# Altium footprint library Full_lib.PcbLib: 247 footprints (part 8 of 16)
Each footprint in its own frame and in the unit in brackets; x right, y up, seen from the top. Pads: shape width x height; smd on the part's side, far side on the other; paste and mask are expansions set on the pad; w line width, h text height; cw(c..) or ccw(c..) is an arc to the next point about the centre after c.
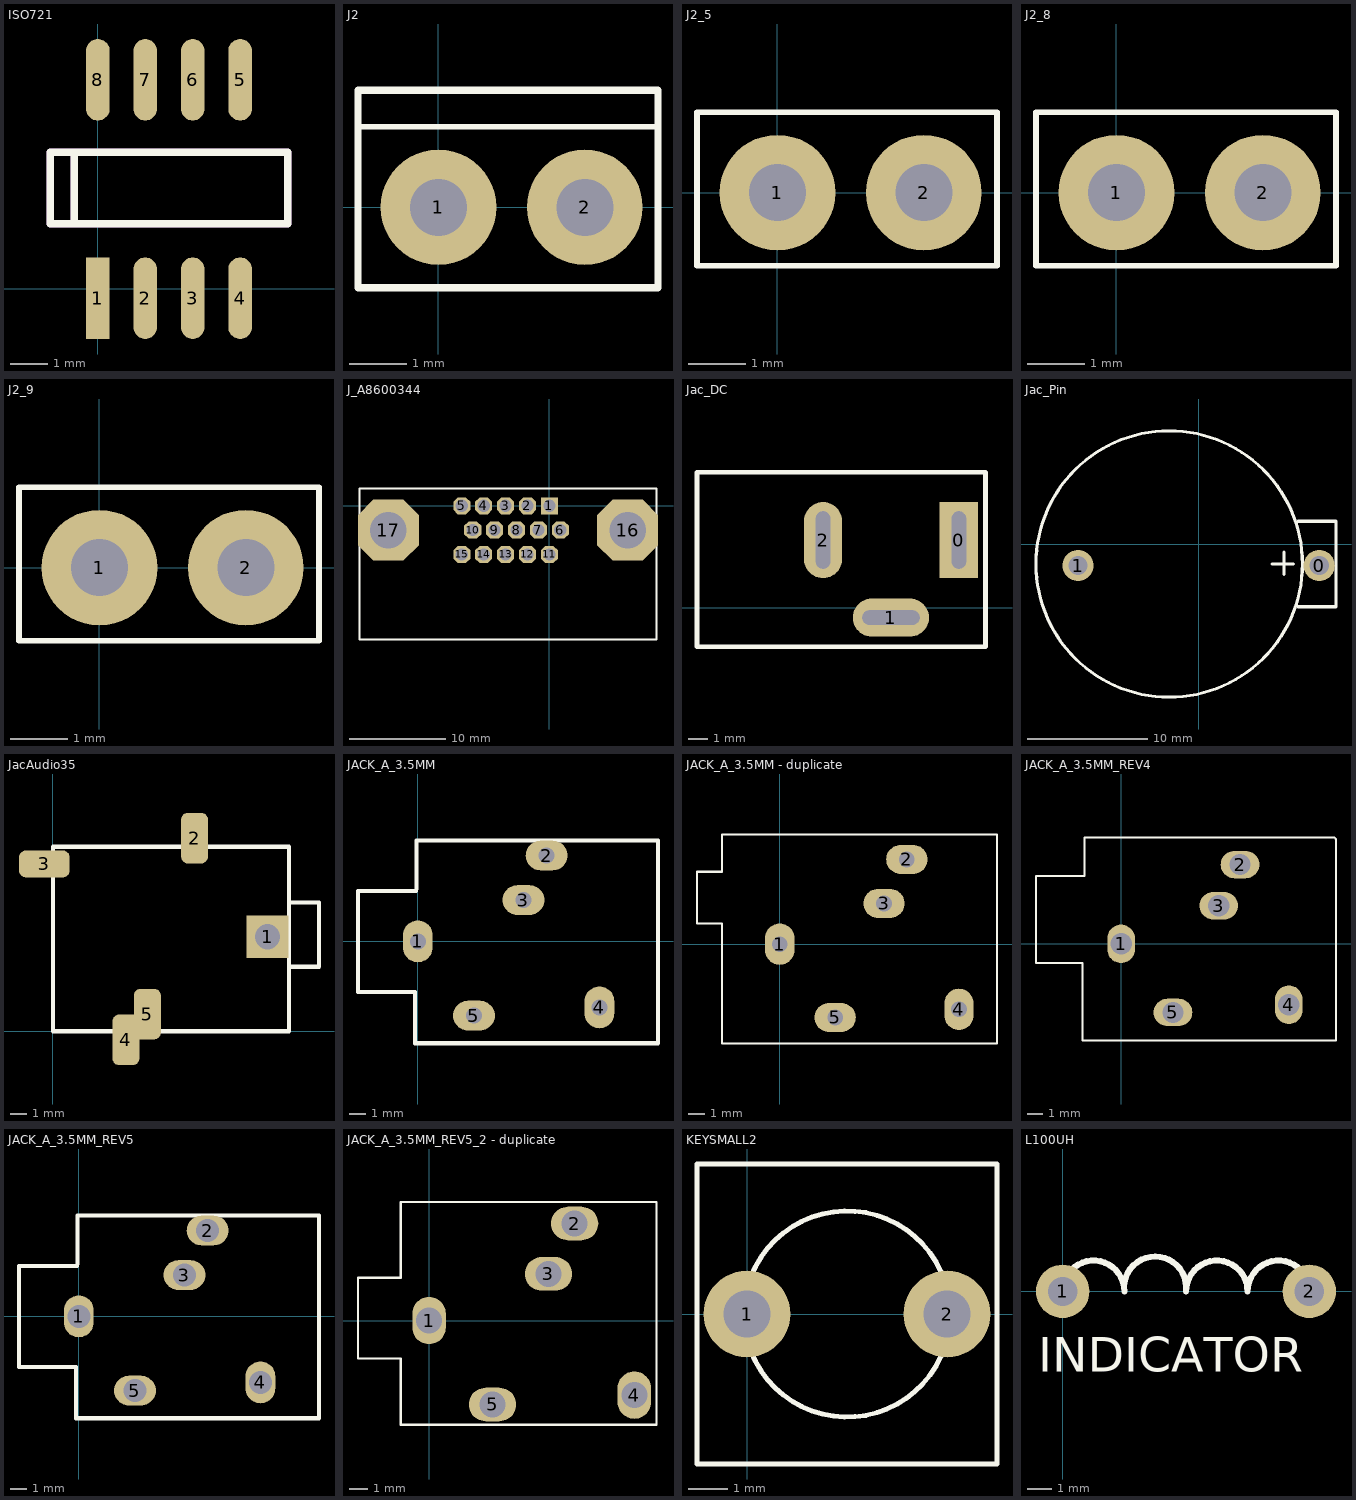
[diagram p7: the footprints below, top view; thin cyan lines are the x and y axes]

## ISO721 [mil]
pads (8):
  rect 25x86 smd: 1(0,-10)
  oval 25x86 smd: 2(50,-10) 3(100,-10) 4(150,-10) 5(150,220) 6(100,220) 7(50,220) 8(0,220)
Top Overlay:
  lines w8: -25,68.5 -25,143.5 ; -50,68.5 200,68.5 200,143.5 -50,143.5 -50,68.5
Mechanical 1:
  lines w8: -25,68.5 -25,143.5 ; -50,68.5 200,68.5 200,143.5 -50,143.5 -50,68.5

## J2 [mil]
pads (2):
  round 79 hole 39: 1(0,0) 2(100,0)
Top Overlay:
  lines w3.93: -55,55 150,55
  lines w5: -55,-55 -55,55 -55,80 150,80 150,55 150,-55 -55,-55

## J2_5 [mil]
pads (2):
  round 79 hole 39: 1(0,0) 2(100,0)
Top Overlay:
  lines w3.93: -55,-50 -55,55 150,55 150,-50 -55,-50

## J2_8 [mil]
pads (2):
  round 79 hole 39: 1(0,0) 2(100,0)
Top Overlay:
  lines w3.93: -55,-50 -55,55 150,55 150,-50 -55,-50
  text ".Designator" at -50,60 h29.52
  text ".Comment" at -50,-100 h29.52

## J2_9 [mil]
pads (2):
  round 79 hole 39: 1(0,0) 2(100,0)
Top Overlay:
  lines w3.93: -55,-50 150,-50 150,55 -55,55 -55,-50

## J_A8600344 [mil]
pads (17):
  rect 70x70 hole 50: 1(0,0)
  oct 70x70 hole 50: 2(-90,0) 3(-180,0) 4(-270,0) 5(-360,0) 6(45,-100) 7(-45,-100) 8(-135,-100) 9(-225,-100) 10(-315,-100) 11(0,-200) 12(-90,-200) 13(-180,-200) 14(-270,-200) 15(-360,-200)
  oct 250x250 hole 150: 16(322,-100) 17(-662,-100)
Top Overlay:
  lines w8: -781,-550 -781,71 441,71 441,-550 -781,-550

## Jac_DC [mil]
height 393.7
pads (3):
  rect 78.74x157.48 hole 30 slot 118.11 at 90 deg: 0(735,140)
  oval 157.48x78.74 hole 30 slot 118.11 at 0 deg: 1(595,-20)
  oval 78.74x157.48 hole 30 slot 118.11 at 90 deg: 2(455,140)
Top Overlay:
  lines w10: 195,-80 195,280 790,280 790,-80 195,-80

## Jac_Pin [mm]
height 10
pads (2):
  round 2.6 hole 1.6: 0(10.033,-1.778) 1(-10.033,-1.778)
Top Overlay:
  circle w0.254: c-2.449,-1.651 r11.085
  lines w0.254: 6.096,-1.651 7.874,-1.651 ; 7.112,-2.54 7.112,-0.635 ; 8.255,-5.207 11.43,-5.207 11.43,1.905 8.255,1.905

## JacAudio35 [mm]
height 5.08
pads (5):
  rect 2.5x2.5 hole 1.5: 1(12.7,5.588)
  rrect50% 1.6x3 smd: 2(8.382,11.43) 4(4.318,-0.508) 5(5.588,1.016)
  rrect50% 3x1.6 smd: 3(-0.508,9.906)
Top Overlay:
  lines w0.254: 13.97,3.81 15.748,3.81 15.748,7.62 13.97,7.62 ; 0,0 13.97,0 13.97,10.922 0,10.922 0,0

## JACK_A_3.5MM [mm]
pads (5):
  oval 1.8x2.54 hole 0.965: 1(0,0) 4(11,-4)
  oval 2.54x1.8 hole 0.965: 2(7.8,5.2) 3(6.4,2.5) 5(3.4,-4.5)
Top Overlay:
  lines w0.254: -3.627,-3.058 -3.627,3.048 ; -3.607,-3.078 -0.183,-3.078 -0.183,-3.272 ; -3.576,3.058 -0.122,3.058 ; -0.183,-6.187 -0.183,-3.129 ; -0.091,3.15 -0.091,6.106 ; -0.071,-6.177 14.549,-6.177 14.549,6.106 0.02,6.106

## JACK_A_3.5MM - duplicate [mm]
pads (5):
  oval 1.8x2.54 hole 0.965: 1(0,0) 4(11,-4)
  oval 2.54x1.8 hole 0.965: 2(7.8,5.2) 3(6.4,2.5) 5(3.4,-4.5)
Top Overlay:
  lines w0.127: -5.08,1.27 -3.556,1.27 -3.556,-6.096 13.335,-6.096 13.335,6.731 -3.556,6.731 -3.556,4.445 -5.08,4.445 -5.08,1.27

## JACK_A_3.5MM_REV4 [mm]
pads (5):
  oval 1.8x2.54 hole 1.397: 1(0,0) 4(11,-4)
  oval 2.54x1.8 hole 1.397: 2(7.8,5.2) 3(6.4,2.5) 5(3.4,-4.5)
Top Overlay:
  lines w0.127: -5.588,-1.27 -2.54,-1.27 -2.54,-6.35 14.097,-6.35 14.097,6.858 13.97,6.985 -2.413,6.985 -2.413,4.445 -5.588,4.445 -5.588,-1.27

## JACK_A_3.5MM_REV5 [mm]
pads (5):
  oval 1.8x2.54 hole 1.397: 1(0,0) 4(11,-4)
  oval 2.54x1.8 hole 1.397: 2(7.8,5.2) 3(6.4,2.5) 5(3.4,-4.5)
Top Overlay:
  lines w0.254: -3.627,-3.058 -3.627,3.048 ; -3.607,-3.078 -0.183,-3.078 -0.183,-3.272 ; -3.576,3.058 -0.122,3.058 ; -0.183,-6.187 -0.183,-3.129 ; -0.091,3.15 -0.091,6.106 ; -0.071,-6.177 14.549,-6.177 14.549,6.106 0.02,6.106

## JACK_A_3.5MM_REV5_2 - duplicate [mm]
height 6.35
pads (5):
  oval 1.8x2.54 hole 1.397: 1(0,0) 4(11,-4)
  oval 2.54x1.8 hole 1.397: 2(7.8,5.2) 3(6.4,2.5) 5(3.4,-4.5)
Top Overlay:
  lines w0.127: -3.81,-2.032 -1.524,-2.032 -1.524,-5.588 12.192,-5.588 12.192,6.35 -1.016,6.35 -1.524,6.35 -1.524,2.286 -3.81,2.286 -3.81,-2.032

## KEYSMALL2 [mm]
pads (2):
  round 2.2 hole 1.2: 1(0,0) 2(5.08,0)
Top Overlay:
  circle w0.127: c2.54,0 r2.618
  lines w0.127: -1.27,-3.81 -1.27,3.81 6.35,3.81 6.35,-3.81 -1.27,-3.81

## L100UH [mm]
pads (2):
  round 2.2 / inner round 2.3 / far side round 2.2 hole 1.2: 1(0,0) 2(10.16,0)
Top Overlay:
  lines w0.254: 0,0 cw(c1.27,0) 2.54,0 cw(c3.81,0.159) 5.08,0 cw(c6.35,0) 7.62,0 cw(c8.89,0) 10.16,0
  text "INDICATOR" at -1.016,-3.302 h1.43